# Altium footprint library PcbLib1.PcbLib: 29 footprints (part 2 of 2)
Each footprint in its own frame and in the unit in brackets; x right, y up, seen from the top. Pads: shape width x height; smd on the part's side, far side on the other; paste and mask are expansions set on the pad; w line width, h text height; cw(c..) or ccw(c..) is an arc to the next point about the centre after c.
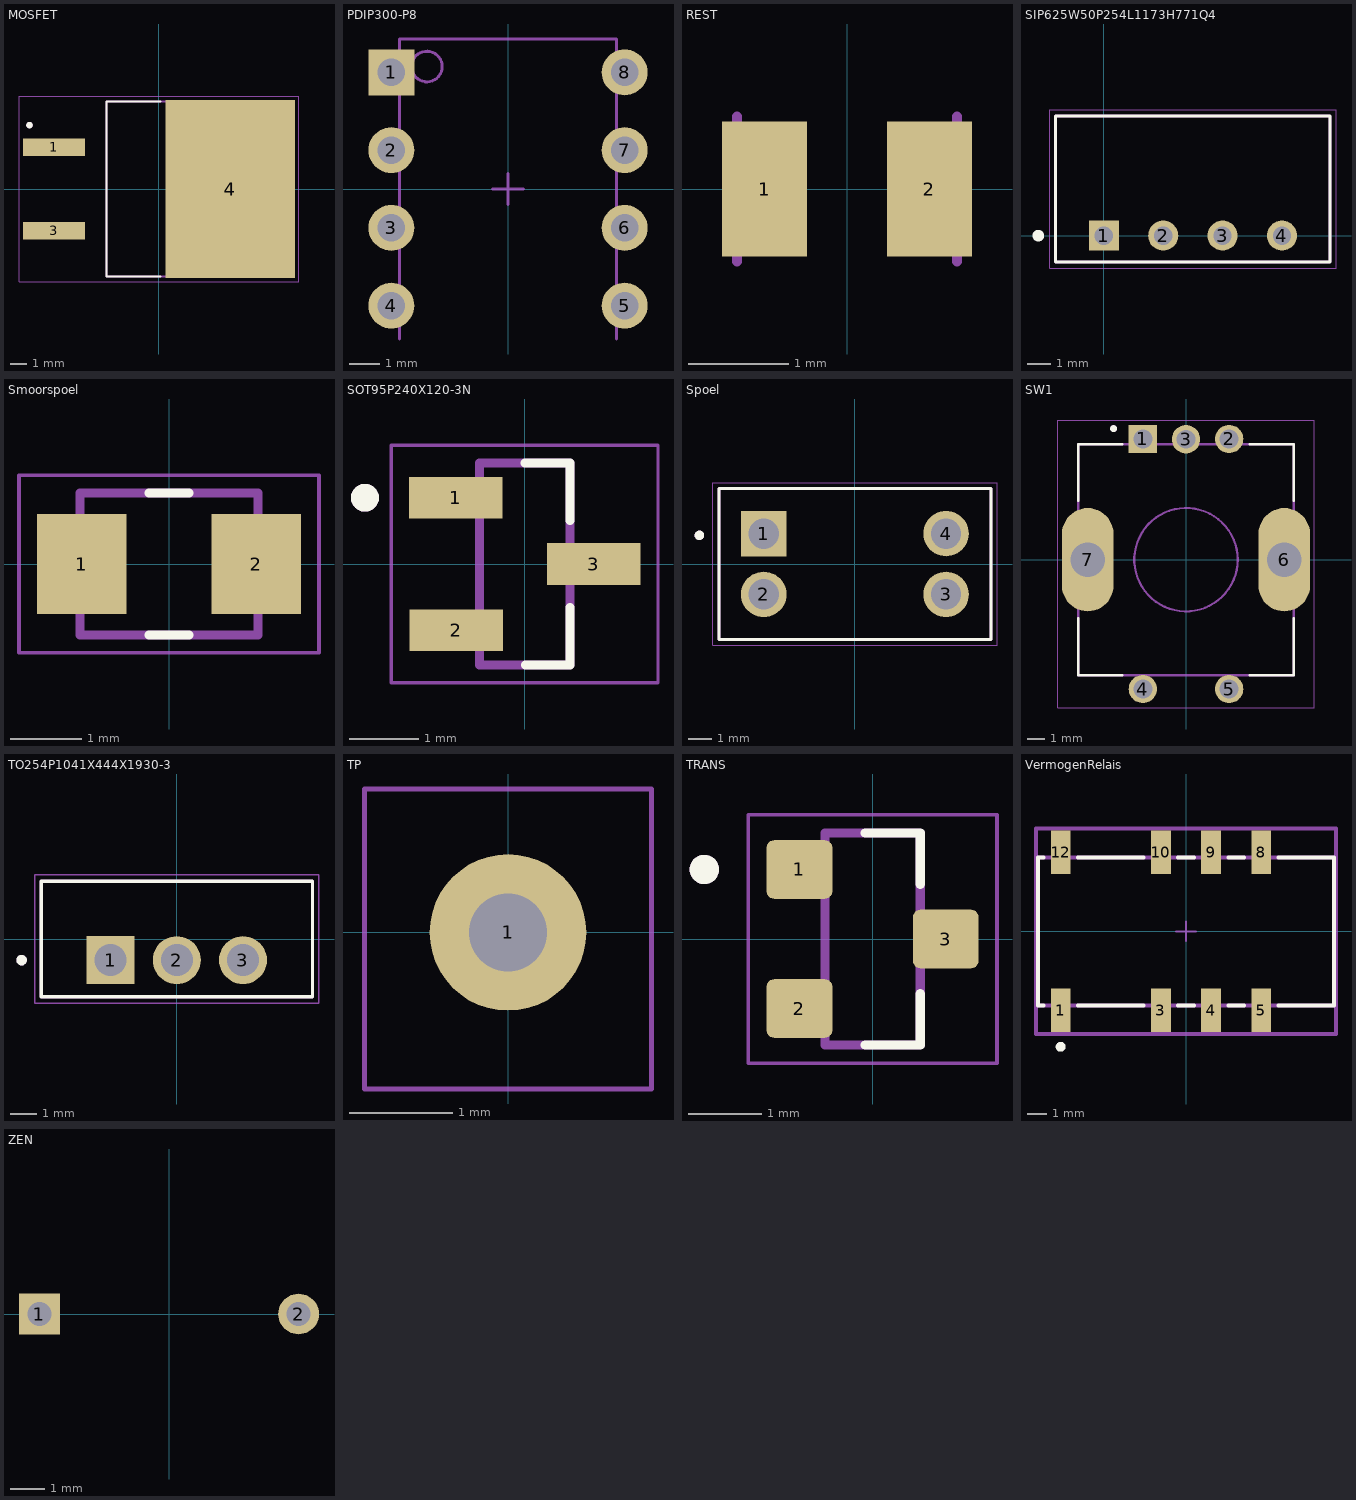
[diagram p1: the footprints below, top view; thin cyan lines are the x and y axes]

## MOSFET [mm] "TO254P1521X483-4N"
pads (3):
  rect 3.78x1.06 smd: 1(-6.4,2.54) 3(-6.4,-2.54)
  rect 7.88x10.84 smd paste-6: 4(4.35,0)
Top Overlay:
  circle w0.2: c-7.9,3.9 r0.1
  lines w0.127: 0.097,-5.34 -3.208,-5.34 -3.208,5.34 0.097,5.34
Top Paste:
  region: 7.14,-3.83 1.56,-3.83 1.56,3.83 7.14,3.83
Mechanical 13:
  circle w0.2: c-7.9,3.9 r0.1
  lines w0.127: -3.208,-5.34 -3.208,5.34 6.453,5.34 6.453,-5.34 -3.208,-5.34
Mechanical 15:
  lines w0.05: -8.54,-5.67 8.54,-5.67 8.54,5.67 -8.54,5.67 -8.54,-5.67

## PDIP300-P8 [mm] "8-Pin Plastic Dual In-Line Package (PDIP)"
height 5.34
pads (8):
  rect 1.5x1.5 hole 0.9: 1(-3.81,3.81)
  round 1.5 hole 0.9: 2(-3.81,1.27) 3(-3.81,-1.27) 4(-3.81,-3.81) 5(3.81,-3.81) 6(3.81,-1.27) 7(3.81,1.27) 8(3.81,3.81)
Mechanical 13:
  circle w0.1: c-2.65,4 r0.5
  lines w0.1: -3.55,-4.9 -3.55,4.9 3.55,4.9 3.55,-4.9
Mechanical 15:
  lines w0.1: -0.5,0 0.5,0 ; 0,-0.5 0,0.5
3D body: height 4.32, standoff 0, extent -3.55,-4.9 3.55,4.9

## REST [mm]
height 0.5
pads (2):
  rect 0.85x1.35 smd: 1(-0.825,0) 2(0.825,0)
Mechanical 13:
  lines w0.1: -1.1,-0.725 -1.1,0.725 ; 1.1,-0.725 1.1,0.725
3D body: height 0.5, standoff 0, extent 0.8,-0.725 1.1,0.725
3D body: height 0.5, standoff 0, extent -1.1,-0.725 -0.8,0.725

## SIP625W50P254L1173H771Q4 [mm]
pads (4):
  rect 1.288x1.288 hole 0.78: 1(0,0)
  round 1.288 hole 0.78: 2(2.54,0) 3(5.08,0) 4(7.62,0)
Top Overlay:
  circle w0.3: c-2.8,0 r0.1
  lines w0.127: -2.06,-1.135 -2.06,5.125 9.68,5.125 9.68,-1.135 -2.06,-1.135
Mechanical 13:
  lines w0.127: -2.06,-1.135 9.68,-1.135 9.68,5.125 -2.06,5.125 -2.06,-1.135
Mechanical 15:
  lines w0.05: -2.31,-1.385 9.93,-1.385 9.93,5.375 -2.31,5.375 -2.31,-1.385

## Smoorspoel [mm] "INDM2520X190N"
height 1.9
pads (2):
  rect 1.26x1.41 smd: 1(-1.23,0) 2(1.23,0)
Top Overlay:
  lines w0.127: -0.28,-1 0.28,-1 ; -0.28,1 0.28,1
Mechanical 13:
  lines w0.127: -1.25,-1 -1.25,1 1.25,1 1.25,-1 -1.25,-1
Mechanical 15:
  lines w0.05: -2.11,-1.25 -2.11,1.25 2.11,1.25 2.11,-1.25 -2.11,-1.25
3D body "step_temp.STEP": height 1.9, standoff 0, extent -1.25,-1 1.25,1

## SOT95P240X120-3N [mm]
height 1.2
pads (3):
  rect 1.34x0.6 smd: 1(-0.99,0.95) 2(-0.98,-0.95) 3(0.99,0)
Top Overlay:
  circle w0.2: c-2.29,0.95 r0.1
  lines w0.127: 0,1.45 0.65,1.45 0.65,0.62 ; 0.01,-1.45 0.65,-1.45 0.65,-0.62
Mechanical 13:
  circle w0.2: c-2.29,0.95 r0.1
  lines w0.127: -0.65,-1.45 -0.65,1.45 0.65,1.45 0.65,-1.45 -0.65,-1.45
Mechanical 15:
  lines w0.05: -1.91,-1.7 -1.91,1.7 1.91,1.7 1.91,-1.7 -1.91,-1.7
3D body "step_temp.STEP": height 1.2, standoff 0, extent -1.2,-1.46 1.2,1.46

## Spoel [mm] "XFMR_CM2545X171B-10"
pads (4):
  rect 1.905x1.905 hole 1.27: 1(-3.81,1.27)
  round 1.905 hole 1.27: 2(-3.81,-1.27) 3(3.81,-1.27) 4(3.81,1.27)
Top Overlay:
  circle w0.2: c-6.5,1.2 r0.1
  lines w0.127: -5.69,-3.15 -5.69,3.15 5.69,3.15 5.69,-3.15 -5.69,-3.15
Mechanical 13:
  circle w0.2: c-6.5,1.2 r0.1
  lines w0.127: -5.69,-3.15 -5.69,3.15 5.69,3.15 5.69,-3.15 -5.69,-3.15
Mechanical 15:
  lines w0.05: -5.94,-3.4 5.94,-3.4 5.94,3.4 -5.94,3.4 -5.94,-3.4
3D body "step_temp.STEP": height 9.5, standoff -3.68, extent -5.69,-3.15 5.69,3.15

## SW1 [mm] "PEC11R-4225F-S0024"
pads (7):
  rect 1.65x1.65 hole 1.1: 1(-2.5,7)
  round 1.65 hole 1.1: 2(2.5,7) 3(0,6.985) 4(-2.5,-7.5) 5(2.5,-7.5)
  oval 3x6 hole 2 square: 6(5.7,0) 7(-5.7,0)
Top Overlay:
  circle w0.2: c-4.2,7.6 r0.1
  lines w0.127: -6.25,-3.4 -6.25,-6.7 -3.7,-6.7 ; -6.25,3.4 -6.25,6.7 -3.7,6.7 ; 3.7,-6.7 6.25,-6.7 6.25,-3.4 ; 3.7,6.7 6.25,6.7 6.25,3.4
Mechanical 13:
  circle w0.2: c-4.2,7.6 r0.1
  circle w0.127: c0,0 r3
  lines w0.127: -6.25,-6.7 -6.25,6.7 6.25,6.7 6.25,-6.7 -6.25,-6.7
Mechanical 15:
  lines w0.05: -7.45,-8.6 7.45,-8.6 7.45,8.1 -7.45,8.1 -7.45,-8.6

## TO254P1041X444X1930-3 [mm]
pads (3):
  rect 1.845x1.845 / inner round 1.845 / far side rect 1.845x1.845 hole 1.23: 1(-2.54,-0.81)
  round 1.845 hole 1.23: 2(0,-0.81) 3(2.54,-0.81)
Top Overlay:
  circle w0.2: c-5.957,-0.81 r0.1
  lines w0.127: -5.208,-2.222 -5.208,2.222 5.208,2.222 5.208,-2.222 -5.208,-2.222
Mechanical 13:
  circle w0.2: c-5.957,-0.81 r0.1
  lines w0.127: -5.208,-2.222 -5.208,2.222 5.208,2.222 5.208,-2.222 -5.208,-2.222
Mechanical 15:
  lines w0.05: -5.457,-2.472 5.457,-2.472 5.457,2.472 -5.457,2.472 -5.457,-2.472

## TP [mil]
pads (1):
  round 60 hole 30: 1(0,0)
Mechanical 15:
  lines w1.97: -55,-60 -55,55 55,55 55,-60 -55,-60

## TRANS [mm] "BC847B"
pads (3):
  rrect25% 0.9x0.8 smd: 1(-1,0.95) 2(-1,-0.95) 3(1,0)
Top Overlay:
  circle w0.2: c-2.3,0.95 r0.1
  lines w0.127: -0.1,-1.45 0.65,-1.45 0.65,-0.75 ; -0.1,1.45 0.65,1.45 0.65,0.75
Mechanical 13:
  circle w0.2: c-2.3,0.95 r0.1
  lines w0.127: -0.65,-1.45 -0.65,1.45 0.65,1.45 0.65,-1.45 -0.65,-1.45
Mechanical 15:
  lines w0.05: -1.7,-1.7 -1.7,1.7 1.7,1.7 1.7,-1.7 -1.7,-1.7
3D body "step_temp.STEP": height 1.2, standoff 0, extent -1.2,-1.46 1.2,1.46

## VermogenRelais [mm] "G6S-2F-DC5"
pads (8):
  rect 1x2.2 smd paste+0 mask+0: 1(-6.35,-4) 3(-1.27,-4) 4(1.27,-4) 5(3.81,-4) 8(3.81,4) 9(1.27,4) 10(-1.27,4) 12(-6.35,4)
Top Overlay:
  circle w0.25: c-6.35,-5.85 r0.125
  lines w0.2: -7.225,-3.75 -7.5,-3.75 -7.5,3.75 -7.225,3.75 ; -5.475,-3.75 -2.145,-3.75 ; -5.475,3.75 -2.145,3.75 ; -0.395,-3.75 0.395,-3.75 ; -0.395,3.75 0.395,3.75 ; 2.145,-3.75 2.935,-3.75 ; 2.145,3.75 2.935,3.75 ; 4.685,-3.75 7.5,-3.75 7.5,3.75 4.685,3.75
Top 3D Body:
  lines w0.2: -7.5,-3.75 7.5,-3.75 7.5,3.75 -7.5,3.75 -7.5,-3.75
Top Courtyard:
  lines w0.2: -7.6,-5.2 7.6,-5.2 7.6,5.2 -7.6,5.2 -7.6,-5.2
Top Assembly:
  lines w0.2: -7.6,-5.2 7.6,-5.2 7.6,5.2 -7.6,5.2 -7.6,-5.2
  text ".Designator" at 0,-0.001 h1
Top Component Center:
  lines w0.1: -0.5,0 0.5,0 ; 0,-0.5 0,0.5
3D body "Relay_Omron_G6S-2F-DC5_eec.STEP": height 0.25, standoff 0, extent -7.6,-5.2 7.6,5.2

## ZEN [mm]
pads (2):
  rect 1.2x1.2 hole 0.7 paste-2539.97 mask+0: 1(-3.813,0)
  round 1.2 hole 0.7 paste-2539.97 mask+0: 2(3.813,0)